# EAGLE library part TXB0104 (library ORBiT-IC-TI)
TXB0104 4-Bit Bidirectional Voltage-level Translator With Automatic Direction Sensing and ±15-kV ESD Protection This TXB0104 4-bit noninverting translator uses two separate configurable power-supply rails. The A port is designed to track VCCA. VCCA accepts any supply voltage from 1.2 V to 3.6 V. The B port is designed to track VCCB. VCCB accepts any supply voltage from 1.65 V to 5.5 V. This allows for universal low-voltage bidirectional translation between any of the 1.2-V, 1.5-V, 1.8-V, 2.5-V, 3.3-V, and 5-V voltage nodes. VCCA must not exceed VCCB. When the OE input is low, all outputs are placed in the high-impedance state. To ensure the high-impedance state during power up or power down, OE must be tied to GND through a pulldown resistor The current sourcing capability of the driver determines the minimum value of the resistor. The TXB0104 device is designed so the OE input circuit is supplied by VCCA. This device is fully specified for partial power-down applications using IOFF. The I OFF circuitry disables the outputs, which prevents damaging current backflow through the device when the device is powered down. Features: 1.2-V to 3.6-V on A Port and 1.65-V to 5.5-V on B Port (VCCA ≤ VCCB) VCC Isolation Feature: If Either VCC Input Is at GND, All Outputs Are in the High-Impedance State Output Enable (OE) Input Circuit Referenced to VCCA Low Power Consumption, 5-µA Maximum ICC I OFF Supports Partial Power-Down Mode Operation Latch-Up Performance Exceeds 100 mA Per JESD 78, Class II ESD Protection Exceeds JESD 22 A Port: 2500-V Human-Body Model (A114-B) 1500-V Charged-Device Model (C101) B Port: ±15-kV Human-Body Model (A114-B) 1500-V Charged-Device Model (C101) Technical data: TXB0104 4-Bit Bidirectional Voltage-Level Shifter with Auto Direction Sensing and +/-15 kV ESD Protect <http://www.ti.com/product/txb0104>
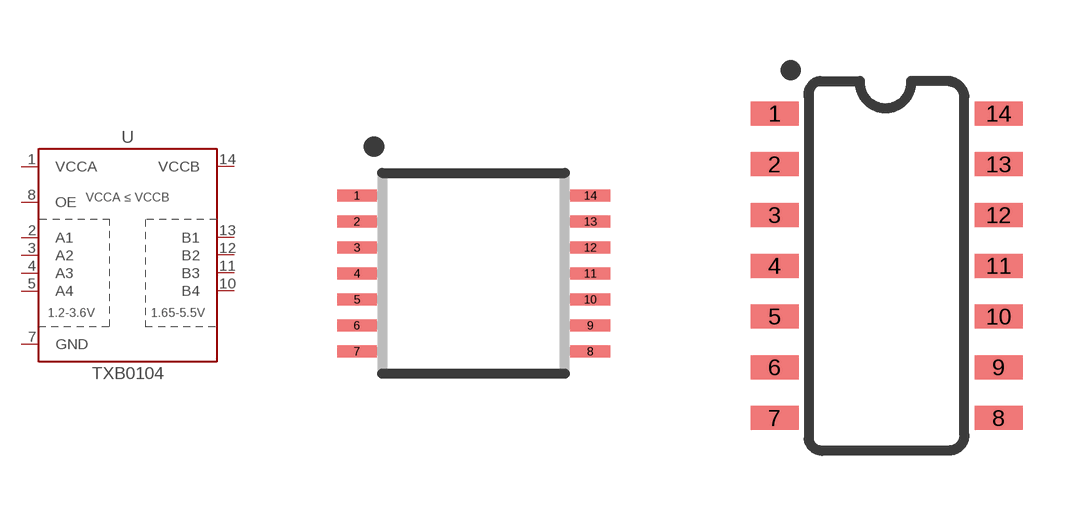
[diagram p4: symbol with the pads of TSSOP14; footprints TSSOP14, SO14]

Designator prefix U

## TXB0104PWR (MF: Texas Instruments; MPN: TXB0104PWR; PN_DIGIKEY: 296-21929-1-ND; PN_MOUSER: 595-TXB0104PWR)  [TSSOP14]
1  VCCA
2  A1
3  A2
4  A3
5  A4
7  GND
8  OE
10  B4
11  B3
12  B2
13  B1
14  VCCB

## TXB0104DR (MF: Texas Instruments; MPN: TXB0104DR; PN_DIGIKEY: 296-21928-1-ND; PN_MOUSER: 595-TXB0104DR)  [SO14]
Pads as for TSSOP14

## TXB0104RUTR (MF: Texas Instruments; MPN: TXB0104RUTR; PN_DIGIKEY: 296-25888-1-ND; PN_MOUSER: 595-TXB0104RUTR)  [UQFN12-2X1.7]
1  VCCA
2  A1
3  A2
4  A3
5  A4
6  GND
7  B4
8  B3
9  B2
10  B1
11  VCCB
12  OE

## Footprint TSSOP14 (pad centres in mm)
Thin Shrink Small Outline Plastic, 14 pin JEDEC MO-153
smd 0.991 x 0.305: 1 -2.918,1.95; 2 -2.918,1.3; 3 -2.918,0.65; 4 -2.918,0; 5 -2.918,-0.65; 6 -2.918,-1.3; 7 -2.918,-1.95; 8 2.918,-1.95; 9 2.918,-1.3; 10 2.918,-0.65; 11 2.918,0; 12 2.918,0.65; 13 2.918,1.3; 14 2.918,1.95

## Footprint SO14 (pad centres in mm)
SOIC-14, 150mil TI R-PDSO-G14
smd 1.2 x 0.6: 1 -2.8,3.81; 2 -2.8,2.54; 3 -2.8,1.27; 4 -2.8,0; 5 -2.8,-1.27; 6 -2.8,-2.54; 7 -2.8,-3.81; 8 2.8,-3.81; 9 2.8,-2.54; 10 2.8,-1.27; 11 2.8,0; 12 2.8,1.27; 13 2.8,2.54; 14 2.8,3.81

## Footprint UQFN12-2X1.7 (pad centres in mm)
UQFN-12, 2x1.7mm TI R-PUQFN-N12
smd 0.2 x 0.5: 1 -0.8,-0.6; 2 -0.4,-0.6; 3 0,-0.6; 4 0.4,-0.6; 5 0.8,-0.6; 7 0.8,0.6; 8 0.4,0.6; 9 0,0.6; 10 -0.4,0.6; 11 -0.8,0.6
smd 0.5 x 0.2: 6 0.75,0; 12 -0.75,0